# Altium schematic symbol library SCH - MCU - SI LABS - SI LABS EFM32LG940F128 64-PIN QFN 9X9.SchLib: 1 symbol
Pins are listed as number, name and electrical type; pins without a type are passive.

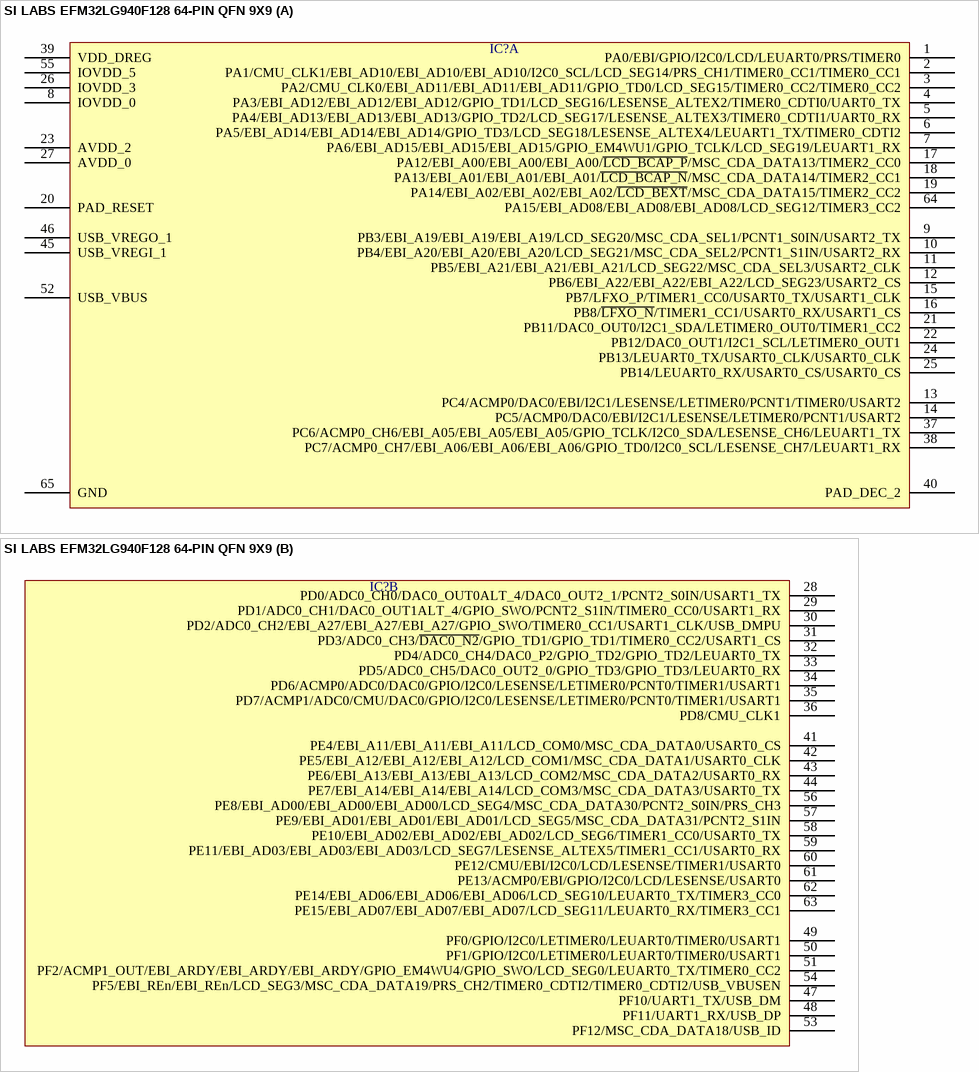
[diagram p0: symbol SI LABS EFM32LG940F128 64-PIN QFN 9X9]

## SI LABS EFM32LG940F128 64-PIN QFN 9X9
designator IC?  (value not drawn)
part A pins: 1 PA0/EBI/GPIO/I2C0/LCD/LEUART0/PRS/TIMER0, 2 PA1/CMU_CLK1/EBI_AD10/EBI_AD10/EBI_AD10/I2C0_SCL/LCD_SEG14/PRS_CH1/TIMER0_CC1/TIMER0_CC1, 3 PA2/CMU_CLK0/EBI_AD11/EBI_AD11/EBI_AD11/GPIO_TD0/LCD_SEG15/TIMER0_CC2/TIMER0_CC2, 4 PA3/EBI_AD12/EBI_AD12/EBI_AD12/GPIO_TD1/LCD_SEG16/LESENSE_ALTEX2/TIMER0_CDTI0/UART0_TX, 5 PA4/EBI_AD13/EBI_AD13/EBI_AD13/GPIO_TD2/LCD_SEG17/LESENSE_ALTEX3/TIMER0_CDTI1/UART0_RX, 6 PA5/EBI_AD14/EBI_AD14/EBI_AD14/GPIO_TD3/LCD_SEG18/LESENSE_ALTEX4/LEUART1_TX/TIMER0_CDTI2, 7 PA6/EBI_AD15/EBI_AD15/EBI_AD15/GPIO_EM4WU1/GPIO_TCLK/LCD_SEG19/LEUART1_RX, 8 IOVDD_0, 9 PB3/EBI_A19/EBI_A19/EBI_A19/LCD_SEG20/MSC_CDA_SEL1/PCNT1_S0IN/USART2_TX, 10 PB4/EBI_A20/EBI_A20/EBI_A20/LCD_SEG21/MSC_CDA_SEL2/PCNT1_S1IN/USART2_RX, 11 PB5/EBI_A21/EBI_A21/EBI_A21/LCD_SEG22/MSC_CDA_SEL3/USART2_CLK, 12 PB6/EBI_A22/EBI_A22/EBI_A22/LCD_SEG23/USART2_CS, 13 PC4/ACMP0/DAC0/EBI/I2C1/LESENSE/LETIMER0/PCNT1/TIMER0/USART2, 14 PC5/ACMP0/DAC0/EBI/I2C1/LESENSE/LETIMER0/PCNT1/USART2, 15 PB7/LFXO_P/TIMER1_CC0/USART0_TX/USART1_CLK, 16 PB8/~{LFXO_N}/TIMER1_CC1/USART0_RX/USART1_CS, 17 PA12/EBI_A00/EBI_A00/EBI_A00/~{LCD_BCAP_P}/MSC_CDA_DATA13/TIMER2_CC0, 18 PA13/EBI_A01/EBI_A01/EBI_A01/~{LCD_BCAP_N}/MSC_CDA_DATA14/TIMER2_CC1, 19 PA14/EBI_A02/EBI_A02/EBI_A02/~{LCD_BEXT}/MSC_CDA_DATA15/TIMER2_CC2, 20 PAD_RESET, 21 PB11/DAC0_OUT0/I2C1_SDA/LETIMER0_OUT0/TIMER1_CC2, 22 PB12/DAC0_OUT1/I2C1_SCL/LETIMER0_OUT1, 23 AVDD_2, 24 PB13/LEUART0_TX/USART0_CLK/USART0_CLK, 25 PB14/LEUART0_RX/USART0_CS/USART0_CS, 26 IOVDD_3, 27 AVDD_0, 37 PC6/ACMP0_CH6/EBI_A05/EBI_A05/EBI_A05/GPIO_TCLK/I2C0_SDA/LESENSE_CH6/LEUART1_TX, 38 PC7/ACMP0_CH7/EBI_A06/EBI_A06/EBI_A06/GPIO_TD0/I2C0_SCL/LESENSE_CH7/LEUART1_RX, 39 VDD_DREG, 40 PAD_DEC_2, 45 USB_VREGI_1, 46 USB_VREGO_1, 52 USB_VBUS, 55 IOVDD_5, 64 PA15/EBI_AD08/EBI_AD08/EBI_AD08/LCD_SEG12/TIMER3_CC2, 65 GND
part B pins: 28 PD0/ADC0_CH0/DAC0_OUT0ALT_4/DAC0_OUT2_1/PCNT2_S0IN/USART1_TX, 29 PD1/ADC0_CH1/DAC0_OUT1ALT_4/GPIO_SWO/PCNT2_S1IN/TIMER0_CC0/USART1_RX, 30 PD2/ADC0_CH2/EBI_A27/EBI_A27/EBI_A27/GPIO_SWO/TIMER0_CC1/USART1_CLK/USB_DMPU, 31 PD3/ADC0_CH3/~{DAC0_N2}/GPIO_TD1/GPIO_TD1/TIMER0_CC2/USART1_CS, 32 PD4/ADC0_CH4/DAC0_P2/GPIO_TD2/GPIO_TD2/LEUART0_TX, 33 PD5/ADC0_CH5/DAC0_OUT2_0/GPIO_TD3/GPIO_TD3/LEUART0_RX, 34 PD6/ACMP0/ADC0/DAC0/GPIO/I2C0/LESENSE/LETIMER0/PCNT0/TIMER1/USART1, 35 PD7/ACMP1/ADC0/CMU/DAC0/GPIO/I2C0/LESENSE/LETIMER0/PCNT0/TIMER1/USART1, 36 PD8/CMU_CLK1, 41 PE4/EBI_A11/EBI_A11/EBI_A11/LCD_COM0/MSC_CDA_DATA0/USART0_CS, 42 PE5/EBI_A12/EBI_A12/EBI_A12/LCD_COM1/MSC_CDA_DATA1/USART0_CLK, 43 PE6/EBI_A13/EBI_A13/EBI_A13/LCD_COM2/MSC_CDA_DATA2/USART0_RX, 44 PE7/EBI_A14/EBI_A14/EBI_A14/LCD_COM3/MSC_CDA_DATA3/USART0_TX, 47 PF10/UART1_TX/USB_DM, 48 PF11/UART1_RX/USB_DP, 49 PF0/GPIO/I2C0/LETIMER0/LEUART0/TIMER0/USART1, 50 PF1/GPIO/I2C0/LETIMER0/LEUART0/TIMER0/USART1, 51 PF2/ACMP1_OUT/EBI_ARDY/EBI_ARDY/EBI_ARDY/GPIO_EM4WU4/GPIO_SWO/LCD_SEG0/LEUART0_TX/TIMER0_CC2, 53 PF12/MSC_CDA_DATA18/USB_ID, 54 PF5/EBI_REn/EBI_REn/LCD_SEG3/MSC_CDA_DATA19/PRS_CH2/TIMER0_CDTI2/TIMER0_CDTI2/USB_VBUSEN, 56 PE8/EBI_AD00/EBI_AD00/EBI_AD00/LCD_SEG4/MSC_CDA_DATA30/PCNT2_S0IN/PRS_CH3, 57 PE9/EBI_AD01/EBI_AD01/EBI_AD01/LCD_SEG5/MSC_CDA_DATA31/PCNT2_S1IN, 58 PE10/EBI_AD02/EBI_AD02/EBI_AD02/LCD_SEG6/TIMER1_CC0/USART0_TX, 59 PE11/EBI_AD03/EBI_AD03/EBI_AD03/LCD_SEG7/LESENSE_ALTEX5/TIMER1_CC1/USART0_RX, 60 PE12/CMU/EBI/I2C0/LCD/LESENSE/TIMER1/USART0, 61 PE13/ACMP0/EBI/GPIO/I2C0/LCD/LESENSE/USART0, 62 PE14/EBI_AD06/EBI_AD06/EBI_AD06/LCD_SEG10/LEUART0_TX/TIMER3_CC0, 63 PE15/EBI_AD07/EBI_AD07/EBI_AD07/LCD_SEG11/LEUART0_RX/TIMER3_CC1